# Altium schematic symbol library SCH - AMPLIFIER DIFFERENTIAL - AMC3301DWE.SCHLIB: 1 symbol
Pins are listed as number, name and electrical type; pins without a type are passive.

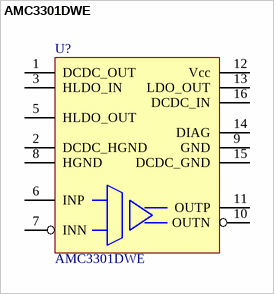
[diagram p0: symbol AMC3301DWE]

## AMC3301DWE
designator U?
±250 mV Input Voltage Range, Reinforced Isolated Amplifier and High Bandwidth of 300 kHz
pins: 1 DCDC_OUT, 2 DCDC_HGND, 3 HLDO_IN, 5 HLDO_OUT, 6 INP, 7 INN, 8 HGND, 9 GND, 10 OUTN, 11 OUTP, 12 Vcc, 13 LDO_OUT, 14 DIAG, 15 DCDC_GND, 16 DCDC_IN